# EAGLE library part UMBRA (library solstice-design-system)
Solstice Design System Umbra add-on boards
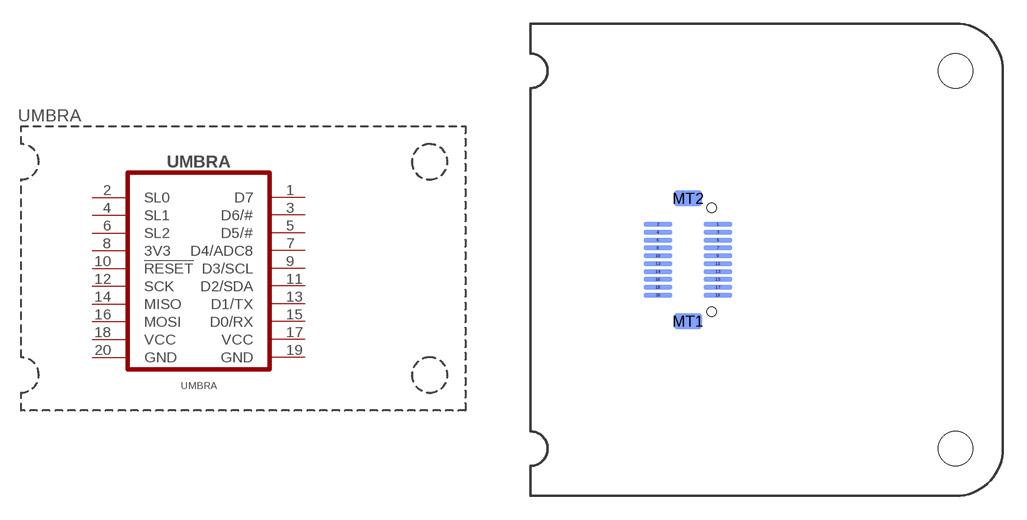
[diagram p0: symbol with the pads of PCB-UMBRA-A1; footprint PCB-UMBRA-A1]

Designator prefix UMBRA

## UMBRAA1 (MFR: Hirose; MPN: DF12 (3.5)-20DP-0.5V + FAB; VALUE: LIBRA FAB + DF12 (3.5)-20DP-0.5V)  [PCB-UMBRA-A1]
1  D7
2  SL0
3  D6/#
4  SL1
5  D5/#
6  SL2
7  D4/ADC8
8  3V3
9  D3/SCL
10  !RESET
11  D2/SDA
12  SCK
13  D1/TX
14  MISO
15  D0/RX
16  MOSI
17  VCC
18  VCC
19  GND
20  GND

## Footprint PCB-UMBRA-A1 (pad centres in mm)
Umbra A1 Size PCB with connector
smd 1.8 x 0.3 bottom: 1 11.9,2.25; 2 8.1,2.25; 3 11.9,1.75; 4 8.1,1.75; 5 11.9,1.25; 6 8.1,1.25; 7 11.9,0.75; 8 8.1,0.75; 9 11.9,0.25; 10 8.1,0.25; 11 11.9,-0.25; 12 8.1,-0.25; 13 11.9,-0.75; 14 8.1,-0.75; 15 11.9,-1.25; 16 8.1,-1.25; 17 11.9,-1.75; 18 8.1,-1.75; 19 11.9,-2.25; 20 8.1,-2.25
smd 1.8 x 1 bottom: MT1 10,-3.9; MT2 10,3.9
hole 0.6 at 11.5,-3.3
hole 0.6 at 11.5,3.3
hole 2.2 at 27,-12
hole 2.2 at 27,12